# EAGLE library part LTC4365 (library Linear)
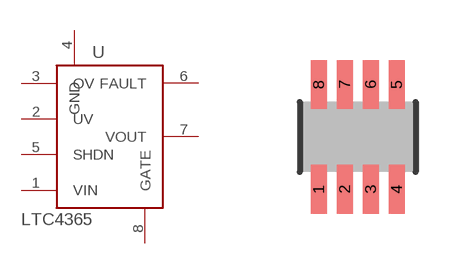
[diagram p282: symbol with the pads of TSOT-23; footprint TSOT-23]

Designator prefix -

## LTC4365CTS8  [TSOT-23]
1  VIN  pwr
2  UV  in
3  OV  in
4  GND  pwr
5  SHDN  in
6  FAULT  out
7  VOUT  out
8  GATE  out

## Footprint TSOT-23 (pad centres in mm)
smd 0.4 x 1.22: 1 0,0; 2 0.65,0; 3 1.3,0; 4 1.95,0; 5 1.95,2.62; 6 1.3,2.62; 7 0.65,2.62; 8 0,2.62